# Altium footprint library manual.PcbLib: 11 footprints
Each footprint in its own frame and in the unit in brackets; x right, y up, seen from the top. Pads: shape width x height; smd on the part's side, far side on the other; paste and mask are expansions set on the pad; w line width, h text height; cw(c..) or ccw(c..) is an arc to the next point about the centre after c.
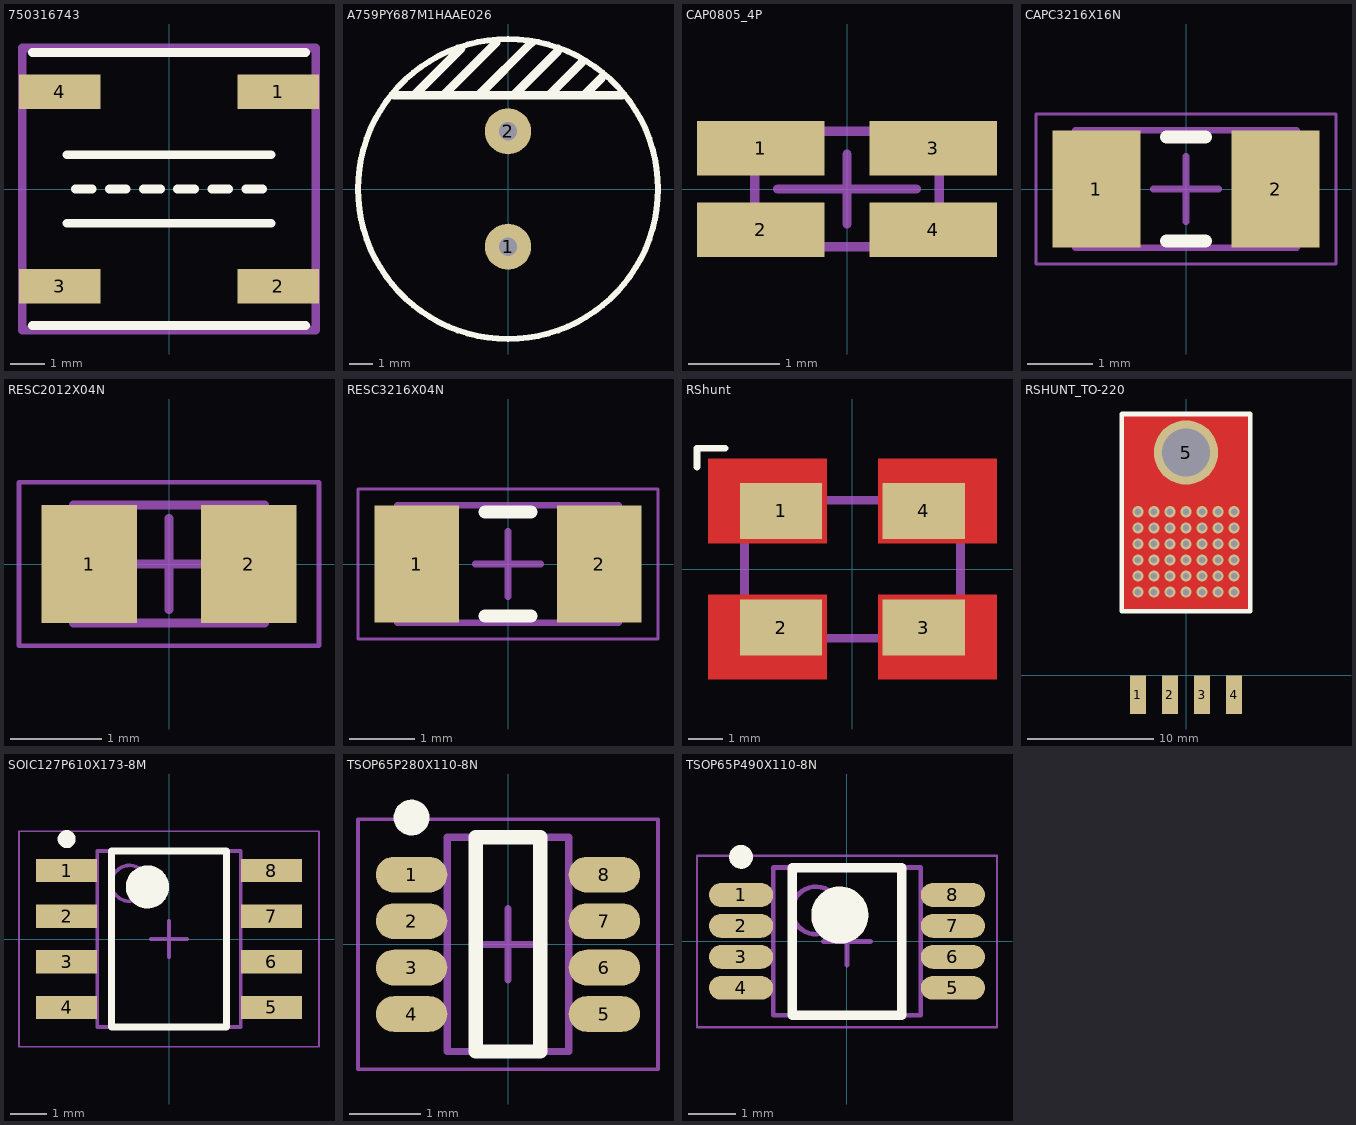
[diagram p0: the footprints below, top view; thin cyan lines are the x and y axes]

## 750316743 [mil]
pads (4):
  rect 94x40 smd: 1(126,112) 2(126,-112) 3(-126,-112) 4(-126,112)
Top Overlay:
  lines w10: -157.48,-157.48 157.48,-157.48 ; -157.48,157.48 157.48,157.48 ; -118.11,-39.37 118.11,-39.37 ; -118.11,39.37 118.11,39.37 ; -108.27,0 -88.58,0 ; -68.9,0 -49.21,0 ; -29.53,0 -9.84,0 ; 9.84,0 29.53,0 ; 49.21,0 68.9,0 ; 88.58,0 108.27,0
Mechanical 1:
  lines w10: -169.29,-162.6 -169.29,162.6 169.29,162.6 169.29,-162.6 -169.29,-162.6
3D body: height 379.92, standoff 0, extent -169.29,-162.6 169.29,162.6

## A759PY687M1HAAE026 [mm]
pads (2):
  round 2 hole 0.8: 1(0,-2.5) 2(0,2.5)
Top Overlay:
  circle w0.254: c0,0 r6.5
  lines w0.381: -4.953,4.064 4.953,4.064 ; -2.032,6.096 -4.064,4.064 -2.794,4.064 -0.508,6.35 ; -1.27,4.064 1.016,6.35 ; 0.254,4.064 2.159,5.969 ; 1.778,4.064 3.175,5.461 ; 3.048,4.064 3.302,4.064 4.064,4.826

## CAP0805_4P [mm]
pads (4):
  rect 1.4x0.6 smd mask+0.076: 1(-0.95,0.45) 2(-0.95,-0.45) 3(0.95,0.45) 4(0.95,-0.45)
Mechanical 1:
  lines w0.102: -1.016,-0.635 1.016,-0.635 1.016,0.635 -1.016,0.635 -1.016,-0.635
Mechanical 15:
  lines w0.102: -0.762,0 0,0 ; 0,-0.381 0,0 ; 0,0.381 0,0 ; 0.762,0 0,0
3D body: height 1.27, standoff 0, extent -1.016,-0.635 1.016,0.635

## CAPC3216X16N [mm] "Chip Capacitor, 2-Leads, Body 3.20x1.60mm, IPC Medium Density"
height 1.6
pads (2):
  rect 1.35x1.8 smd: 1(-1.375,0) 2(1.375,0)
Top Overlay:
  lines w0.2: -0.3,-0.8 0.3,-0.8 ; -0.3,0.8 0.3,0.8
Mechanical 13:
  lines w0.1: -1.7,-0.9 1.7,-0.9 1.7,0.9 -1.7,0.9 -1.7,-0.9
Mechanical 15:
  lines w0.05: -2.3,-1.15 2.3,-1.15 2.3,1.15 -2.3,1.15 -2.3,-1.15
  lines w0.1: -0.5,0 0.5,0 ; 0,-0.5 0,0.5
3D body: height 1.6, standoff 0, extent 1.15,-0.9 1.7,0.9
3D body: height 1.6, standoff 0, extent -1.7,-0.9 -1.15,0.9
3D body: height 1.6, standoff 0, extent -1.15,-0.9 1.15,0.9

## RESC2012X04N [mm] "Chip Resistor, 2-Leads, Body 2.00x1.20mm, IPC Medium Density"
height 0.45
pads (2):
  rect 1.05x1.3 smd: 1(-0.875,0) 2(0.875,0)
Mechanical 13:
  lines w0.1: -1.05,-0.65 1.05,-0.65 1.05,0.65 -1.05,0.65 -1.05,-0.65
Mechanical 15:
  lines w0.05: -1.65,-0.9 1.65,-0.9 1.65,0.9 -1.65,0.9 -1.65,-0.9
  lines w0.1: -0.5,0 0.5,0 ; 0,-0.5 0,0.5
3D body: height 0.45, standoff 0, extent 0.65,-0.65 1.05,0.65
3D body: height 0.45, standoff 0, extent -1.05,-0.65 -0.65,0.65
3D body: height 0.45, standoff 0, extent -0.65,-0.65 0.65,0.65

## RESC3216X04N [mm] "Chip Resistor, 2-Leads, Body 3.20x1.60mm, IPC Medium Density"
height 0.4
pads (2):
  rect 1.3x1.8 smd: 1(-1.4,0) 2(1.4,0)
Top Overlay:
  lines w0.2: -0.35,-0.8 0.35,-0.8 ; -0.35,0.8 0.35,0.8
Mechanical 13:
  lines w0.1: -1.7,-0.9 1.7,-0.9 1.7,0.9 -1.7,0.9 -1.7,-0.9
Mechanical 15:
  lines w0.05: -2.3,-1.15 2.3,-1.15 2.3,1.15 -2.3,1.15 -2.3,-1.15
  lines w0.1: -0.5,0 0.5,0 ; 0,-0.5 0,0.5
3D body: height 0.4, standoff 0, extent 1.2,-0.9 1.7,0.9
3D body: height 0.4, standoff 0, extent -1.7,-0.9 -1.2,0.9
3D body: height 0.4, standoff 0, extent -1.2,-0.9 1.2,0.9

## RShunt [mil]
pads (4):
  rect 95x65 smd: 1(-82.5,67.5) 2(-82.5,-67.5) 3(82.5,-67.5) 4(82.5,67.5)
Top Layer:
  rectangle: 29.53,-127.95 167.32,-29.53
  rectangle: 29.53,29.53 167.32,127.95
  rectangle: -167.32,-127.95 -29.53,-29.53
  rectangle: -167.32,29.53 -29.53,127.95
Top Overlay:
  lines w8: -180,118.11 -180,140 -147.64,140
Mechanical 1:
  lines w10: -125,-80 125,-80 125,80 -125,80 -125,-80
3D body: height 40, standoff 0, extent -125,-80 125,80

## RSHUNT_TO-220 [mil]
pads (5):
  rect 50x120 smd: 1(-150,-60) 2(-50,-60) 3(50,-60) 4(150,-60)
  round 200 hole 150: 5(0,695)
via -150,310 diameter 35 hole 20
via -100,310 diameter 35 hole 20
via -50,310 diameter 35 hole 20
via 0,310 diameter 35 hole 20
via 50,310 diameter 35 hole 20
via 100,310 diameter 35 hole 20
via 150,310 diameter 35 hole 20
via 150,260 diameter 35 hole 20
via 100,260 diameter 35 hole 20
via 50,260 diameter 35 hole 20
via 0,260 diameter 35 hole 20
via -50,260 diameter 35 hole 20
via -100,260 diameter 35 hole 20
via -150,260 diameter 35 hole 20
via -150,410 diameter 35 hole 20
via -100,410 diameter 35 hole 20
via -50,410 diameter 35 hole 20
via 0,410 diameter 35 hole 20
via 50,410 diameter 35 hole 20
via 100,410 diameter 35 hole 20
via 150,410 diameter 35 hole 20
via 150,360 diameter 35 hole 20
via 100,360 diameter 35 hole 20
via 50,360 diameter 35 hole 20
via 0,360 diameter 35 hole 20
via -50,360 diameter 35 hole 20
via -100,360 diameter 35 hole 20
via -150,360 diameter 35 hole 20
via -150,510 diameter 35 hole 20
via -100,510 diameter 35 hole 20
via -50,510 diameter 35 hole 20
via 0,510 diameter 35 hole 20
via 50,510 diameter 35 hole 20
via 100,510 diameter 35 hole 20
via 150,510 diameter 35 hole 20
via 150,460 diameter 35 hole 20
via 100,460 diameter 35 hole 20
via 50,460 diameter 35 hole 20
via 0,460 diameter 35 hole 20
via -50,460 diameter 35 hole 20
via -100,460 diameter 35 hole 20
via -150,460 diameter 35 hole 20
Top Layer:
  rectangle: -200,200 200,815
Bottom Layer:
  rectangle: -200,200 200,815
Top Overlay:
  circle w10: c0,695 r75
  lines w15: -200,200 -200,815 200,815 200,200 -200,200
Top Solder:
  rectangle: -200,200 200,815
Bottom Solder:
  rectangle: -200,200 200,815

## SOIC127P610X173-8M [mm] "SOIC, 8-Leads, Body 4.93x3.99mm, Pitch 1.27mm, IPC Low Density"
height 1.73
pads (8):
  rect 1.7x0.65 smd: 1(-2.85,1.905) 2(-2.85,0.635) 3(-2.85,-0.635) 4(-2.85,-1.905) 5(2.85,-1.905) 6(2.85,-0.635) 7(2.85,0.635) 8(2.85,1.905)
Top Overlay:
  circle w0.25: c-2.85,2.78 r0.125
  circle w0.6: c-0.6,1.45 r0.3
  lines w0.2: -1.6,-2.45 -1.6,2.45 1.6,2.45 1.6,-2.45 -1.6,-2.45
Mechanical 13:
  circle w0.1: c-1.1,1.55 r0.5
  lines w0.1: -2,-2.45 -2,2.45 2,2.45 2,-2.45 -2,-2.45
Mechanical 15:
  lines w0.05: -4.175,-3 -4.175,3 4.175,3 4.175,-3 -4.175,-3
  lines w0.1: -0.5,0 0.5,0 ; 0,-0.5 0,0.5
3D body "SOIC127P610X173-8M.step": height 1.73, standoff 0, extent -3.035,-2.45 3.035,2.45

## TSOP65P280X110-8N [mm] "TSOP, 8-Leads, Body 2.90x1.60mm, Pitch 0.65mm, IPC Medium Density"
height 1.1
pads (8):
  oval 1x0.5 smd: 1(-1.35,0.975) 2(-1.35,0.325) 3(-1.35,-0.325) 4(-1.35,-0.975) 5(1.35,-0.975) 6(1.35,-0.325) 7(1.35,0.325) 8(1.35,0.975)
Top Overlay:
  circle w0.25: c-1.35,1.775 r0.125
  lines w0.2: -0.45,-1.5 -0.45,1.5 0.45,1.5 0.45,-1.5 -0.45,-1.5
Mechanical 13:
  lines w0.1: -0.85,-1.5 -0.85,1.5 0.85,1.5 0.85,-1.5 -0.85,-1.5
Mechanical 15:
  lines w0.05: -2.1,-1.75 -2.1,1.75 2.1,1.75 2.1,-1.75 -2.1,-1.75
  lines w0.1: -0.5,0 0.5,0 ; 0,-0.5 0,0.5
3D body: height 1.1, standoff 0.1, extent -0.85,-1.5 0.85,1.5

## TSOP65P490X110-8N [mm] "TSOP, 8-Leads, Body 3.00x3.00mm, Pitch 0.65mm, IPC Medium Density"
height 1.1
pads (8):
  oval 1.35x0.5 smd: 1(-2.225,0.975) 2(-2.225,0.325) 3(-2.225,-0.325) 4(-2.225,-0.975) 5(2.225,-0.975) 6(2.225,-0.325) 7(2.225,0.325) 8(2.225,0.975)
Top Overlay:
  circle w0.25: c-2.225,1.775 r0.125
  circle w0.6: c-0.15,0.55 r0.3
  lines w0.2: -1.15,-1.55 -1.15,1.55 1.15,1.55 1.15,-1.55 -1.15,-1.55
Mechanical 13:
  circle w0.1: c-0.65,0.65 r0.5
  lines w0.1: -1.55,-1.55 -1.55,1.55 1.55,1.55 1.55,-1.55 -1.55,-1.55
Mechanical 15:
  lines w0.05: -3.15,-1.8 -3.15,1.8 3.15,1.8 3.15,-1.8 -3.15,-1.8
  lines w0.1: -0.5,0 0.5,0 ; 0,-0.5 0,0.5
3D body: height 1.1, standoff 0.1, extent -1.55,-1.55 1.55,1.55